# Altium footprint library 2020-09-21_21-08-54.PcbLib: 3 footprints
Each footprint in its own frame and in the unit in brackets; x right, y up, seen from the top. Pads: shape width x height; smd on the part's side, far side on the other; paste and mask are expansions set on the pad; w line width, h text height; cw(c..) or ccw(c..) is an arc to the next point about the centre after c.
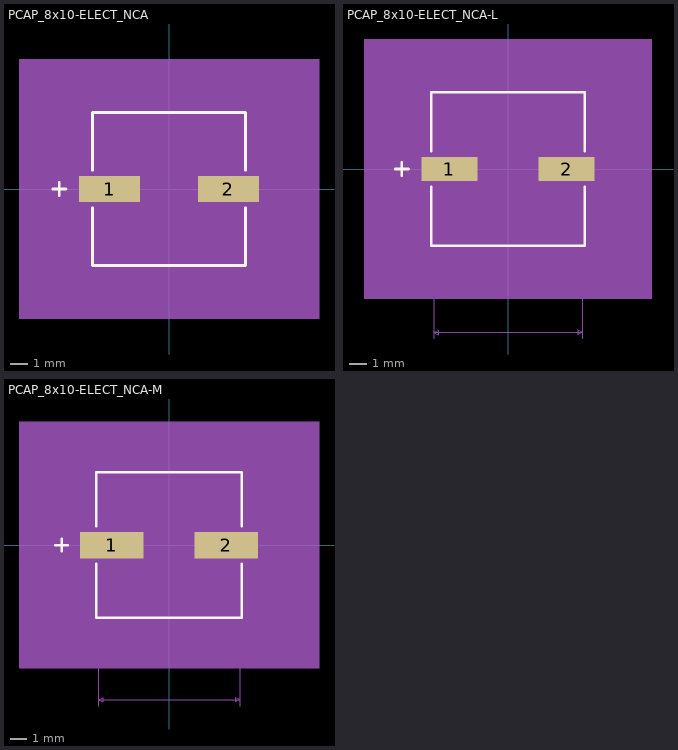
[diagram p0: the footprints below, top view; thin cyan lines are the x and y axes]

## PCAP_8x10-ELECT_NCA [mil]
pads (2):
  rect 138x59 smd paste+0 mask+0: 1(-134,0) 2(134,0)
Top Overlay:
  lines w6: -262,0 -232,0 ; -247,-15 -247,15 ; -172.5,-42.6 -172.5,-172.5 172.5,-172.5 172.5,-42.6 ; -172.5,42.6 -172.5,172.5 172.5,172.5 172.5,42.6
Mechanical 5:
  region: 338,-292.5 -338,-292.5 -338,292.5 338,292.5
Mechanical 7:
  lines w1: -282.5,-167.5 -167.5,-167.5 ; -282.5,167.5 -167.5,167.5 ; -233,-267.5 -183,-267.5 ; -183,-282.5 -183,-39.5 ; -183,39.5 -183,282.5 ; -61,-282.5 -61,-19.5 ; -11,-267.5 -61,-267.5 ; 213,21.5 318,21.5 ; 303,71.5 303,21.5 ; -267.5,-167.5 -262.5,-157.5 -272.5,-157.5 -267.5,-167.5 ; -267.5,-167.5 -267.5,167.5 ; -267.5,167.5 -262.5,157.5 -272.5,157.5 -267.5,167.5 ; -183,-267.5 -193,-272.5 -193,-262.5 -183,-267.5 ; -61,-267.5 -51,-272.5 -51,-262.5 -61,-267.5 ; 303,21.5 308,31.5 298,31.5 303,21.5 ; -183,267.5 -173,262.5 -173,272.5 -183,267.5
  text "0.335in/8.509mm" at -475,-12.5 h25
Mechanical 13:
  lines w1: -262,0 -232,0 ; -247,-15 -247,15 ; -167.5,-83.75 -83.75,-167.5 ; -167.5,83.75 -83.75,167.5 ; -167.5,-167.5 -167.5,167.5 167.5,167.5 167.5,-167.5 -167.5,-167.5
Mechanical 15:
  region: -177.5,-39.5 -213,-39.5 -213,39.5 -177.5,39.5 -177.5,177.5 177.5,177.5 177.5,39.5 213,39.5 213,-39.5 177.5,-39.5 177.5,-177.5 -177.5,-177.5
  lines w6: -213,-39.5 -177.5,-39.5 -177.5,-177.5 177.5,-177.5 177.5,-39.5 213,-39.5 213,39.5 177.5,39.5 177.5,177.5 -177.5,177.5 -177.5,39.5 -213,39.5 -213,-39.5
3D body: height 10, standoff 0, extent 0,0 10,10

## PCAP_8x10-ELECT_NCA-L [mil]
pads (2):
  rect 126x55 smd paste+0 mask+0: 1(-132,0) 2(132,0)
Top Overlay:
  lines w6: -254,0 -224,0 ; -239,-15 -239,15 ; -172.5,-40.6 -172.5,-172.5 172.5,-172.5 172.5,-40.6 ; -172.5,40.6 -172.5,172.5 172.5,172.5 172.5,40.6
Mechanical 5:
  region: 324,-292.5 -324,-292.5 -324,292.5 324,292.5
Mechanical 7:
  lines w1: -282.5,-167.5 -167.5,-167.5 -167.5,-382.5 ; -282.5,167.5 -167.5,167.5 ; -233,-267.5 -183,-267.5 ; -183,-282.5 -183,-37.5 ; -183,37.5 -183,282.5 ; -61,-282.5 -61,-17.5 ; -11,-267.5 -61,-267.5 ; 167.5,-382.5 167.5,-167.5 ; 183,37.5 183,282.5 ; 205,-21.5 310,-21.5 ; 205,21.5 310,21.5 ; 295,-71.5 295,-21.5 ; 295,71.5 295,21.5 ; -267.5,-167.5 -267.5,167.5 ; -267.5,-167.5 -272.5,-157.5 -262.5,-157.5 -267.5,-167.5 ; -267.5,167.5 -272.5,157.5 -262.5,157.5 -267.5,167.5 ; -183,-267.5 -193,-262.5 -193,-272.5 -183,-267.5 ; -183,267.5 183,267.5 ; -183,267.5 -173,272.5 -173,262.5 -183,267.5 ; -167.5,-367.5 167.5,-367.5 ; -167.5,-367.5 -157.5,-362.5 -157.5,-372.5 -167.5,-367.5 ; -61,-267.5 -51,-262.5 -51,-272.5 -61,-267.5 ; 167.5,-367.5 157.5,-362.5 157.5,-372.5 167.5,-367.5 ; 183,267.5 173,272.5 173,262.5 183,267.5 ; 295,-21.5 290,-31.5 300,-31.5 295,-21.5 ; 295,21.5 290,31.5 300,31.5 295,21.5
  text "Default Padstyle: RX126Y55D0T" at -362.5,-447.5 h50
  text "Alternate 1 Padstyle: OX60Y90D30P" at -412.5,-547.5 h50
  text "Alternate 2 Padstyle: OX90Y60D30P" at -412.5,-647.5 h50
  text "0.043in/1.092mm" at 315,-12.5 h25
  text "0.366in/9.296mm" at -93.75,287.5 h25
  text "0.335in/8.509mm" at -475,-12.5 h25
  text "0.122in/3.099mm" at -215.75,-312.5 h25
  text "0.335in/8.509mm" at -93.75,-412.5 h25
Mechanical 13:
  lines w1: -254,0 -224,0 ; -239,-15 -239,15 ; -167.5,-83.75 -83.75,-167.5 ; -167.5,83.75 -83.75,167.5 ; -167.5,-167.5 167.5,-167.5 167.5,167.5 -167.5,167.5 -167.5,-167.5
Mechanical 15:
  region: -171.5,-31.5 -199,-31.5 -199,31.5 -171.5,31.5 -171.5,171.5 171.5,171.5 171.5,31.5 199,31.5 199,-31.5 171.5,-31.5 171.5,-171.5 -171.5,-171.5
  lines w6: -199,-31.5 -199,31.5 -171.5,31.5 -171.5,171.5 171.5,171.5 171.5,31.5 199,31.5 199,-31.5 171.5,-31.5 171.5,-171.5 -171.5,-171.5 -171.5,-31.5 -199,-31.5
3D body: height 10, standoff 0, extent 0,0 10,10

## PCAP_8x10-ELECT_NCA-M [mil]
pads (2):
  rect 150x63 smd paste+0 mask+0: 1(-136,0) 2(136,0)
Top Overlay:
  lines w6: -270,0 -240,0 ; -255,-15 -255,15 ; -172.5,-44.6 -172.5,-172.5 172.5,-172.5 172.5,-44.6 ; -172.5,44.6 -172.5,172.5 172.5,172.5 172.5,44.6
Mechanical 5:
  region: 356,-292.5 -356,-292.5 -356,292.5 356,292.5
Mechanical 7:
  lines w1: -282.5,-167.5 -167.5,-167.5 -167.5,-382.5 ; -282.5,167.5 -167.5,167.5 ; -233,-267.5 -183,-267.5 ; -183,-282.5 -183,-41.5 ; -183,41.5 -183,282.5 ; -61,-282.5 -61,-21.5 ; -11,-267.5 -61,-267.5 ; 167.5,-382.5 167.5,-167.5 ; 183,41.5 183,282.5 ; 221,-21.5 326,-21.5 ; 221,21.5 326,21.5 ; 311,-71.5 311,-21.5 ; 311,71.5 311,21.5 ; -267.5,-167.5 -267.5,167.5 ; -267.5,-167.5 -272.5,-157.5 -262.5,-157.5 -267.5,-167.5 ; -267.5,167.5 -272.5,157.5 -262.5,157.5 -267.5,167.5 ; -183,-267.5 -193,-262.5 -193,-272.5 -183,-267.5 ; -183,267.5 183,267.5 ; -183,267.5 -173,272.5 -173,262.5 -183,267.5 ; -167.5,-367.5 167.5,-367.5 ; -167.5,-367.5 -157.5,-362.5 -157.5,-372.5 -167.5,-367.5 ; -61,-267.5 -51,-262.5 -51,-272.5 -61,-267.5 ; 167.5,-367.5 157.5,-362.5 157.5,-372.5 167.5,-367.5 ; 183,267.5 173,272.5 173,262.5 183,267.5 ; 311,-21.5 306,-31.5 316,-31.5 311,-21.5 ; 311,21.5 306,31.5 316,31.5 311,21.5
  text "Default Padstyle: RX150Y63D0T" at -362.5,-443.5 h50
  text "Alternate 1 Padstyle: OX60Y90D30P" at -412.5,-543.5 h50
  text "Alternate 2 Padstyle: OX90Y60D30P" at -412.5,-643.5 h50
  text "0.043in/1.092mm" at 331,-12.5 h25
  text "0.366in/9.296mm" at -93.75,287.5 h25
  text "0.335in/8.509mm" at -475,-12.5 h25
  text "0.122in/3.099mm" at -215.75,-312.5 h25
  text "0.335in/8.509mm" at -93.75,-412.5 h25
Mechanical 13:
  lines w1: -270,0 -240,0 ; -255,-15 -255,15 ; -167.5,-83.75 -83.75,-167.5 ; -167.5,83.75 -83.75,167.5 ; -167.5,-167.5 167.5,-167.5 167.5,167.5 -167.5,167.5 -167.5,-167.5
Mechanical 15:
  region: -187.5,-51.5 -231,-51.5 -231,51.5 -187.5,51.5 -187.5,187.5 187.5,187.5 187.5,51.5 231,51.5 231,-51.5 187.5,-51.5 187.5,-187.5 -187.5,-187.5
  lines w6: -231,-51.5 -231,51.5 -187.5,51.5 -187.5,187.5 187.5,187.5 187.5,51.5 231,51.5 231,-51.5 187.5,-51.5 187.5,-187.5 -187.5,-187.5 -187.5,-51.5 -231,-51.5
3D body: height 10, standoff 0, extent 0,0 10,10